# EAGLE library part TPS5450 (library MAAV)
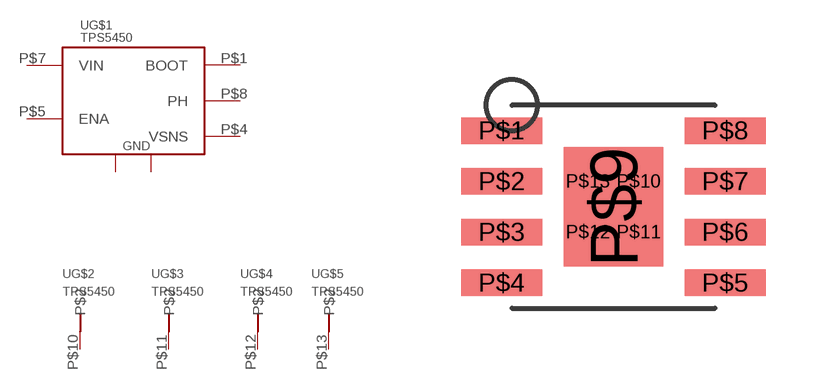
[diagram p7: symbol with the pads of TPS5450; footprint TPS5450]

Designator prefix U; gates G$1=TPS5450 G$2=GND G$3=GND G$4=GND G$5=GND

## TPS5450 (DIGIKEY: 296-23750-1-ND)  [TPS5450]
P$1  G$1:BOOT
P$4  G$1:VSNS
P$5  G$1:ENA
P$6  G$1:GND
P$7  G$1:VIN
P$8  G$1:PH
P$9  G$1:PGND
P$10  G$2:P$2
P$11  G$3:P$2
P$12  G$4:P$2
P$13  G$5:P$2

## Footprint TPS5450 (pad centres in mm)
smd 2.032 x 0.66: P$1 -2.794,1.905; P$2 -2.794,0.635; P$3 -2.794,-0.635; P$4 -2.794,-1.905; P$5 2.794,-1.905; P$6 2.794,-0.635; P$7 2.794,0.635; P$8 2.794,1.905
smd 2.49 x 2.99: P$9 0,0
drill 0.5: P$10 0.635,0.635; P$11 0.635,-0.635; P$12 -0.635,-0.635; P$13 -0.635,0.635